# EAGLE library part NRJ6HF-1 (library NRJ6HF-1)
Phone Connectors STEREO THREADED NO HARDWARE INCLUDED Source: Datasheet <https://componentsearchengine.com/Datasheets/5/NRJ6HF-1.pdf>
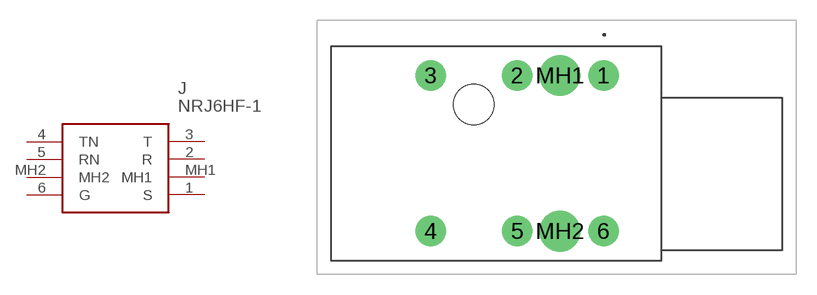
[diagram p0: symbol with the pads of NRJ6HF1; footprint NRJ6HF1]

Designator prefix J

## NRJ6HF-1 (Allied_Number: 70347961; Allied_Price-Stock: https://www.alliedelec.com/neutrik-nrj6hf-1/70347961/; Description: Phone Connectors STEREO THREADED NO HARDWARE INCLUDED; Height: 12.7mm; Manufacturer_Name: Neutrik; Manufacturer_Part_Number: NRJ6HF-1; Mouser_Part_Number: 550-20384; Mouser_Price-Stock: https://www.mouser.co.uk/ProductDetail/Neutrik/NRJ6HF-1?qs=lytv%2F56AjyI%252Bc%252Bp%2FfWZpBw%3D%3D)  [NRJ6HF1]
1  S
2  R
3  T
4  TN
5  RN
6  G
MH1  MH1
MH2  MH2

## Footprint NRJ6HF1 (pad centres in mm)
NRJ6HF-1-1
drill 1.5 pad 2.25: 1 0,0; 2 -6.35,0; 3 -12.7,0; 4 -12.7,-11.43; 5 -6.35,-11.43; 6 0,-11.43
drill 2 pad 3: MH1 -3.2,0; MH2 -3.2,-11.43
hole 3 at -9.55,-2.13